# EAGLE library part ADE7953 (library analog-devices)
Single Phase, Multifunction Metering IC with Neutral Current Measurement Source: http://www.analog.com/static/imported-files/data_sheets/ADE7953.pdf http://www.analog.com/static/imported-files/jp/data_sheets/ADE7953_jp.pdf
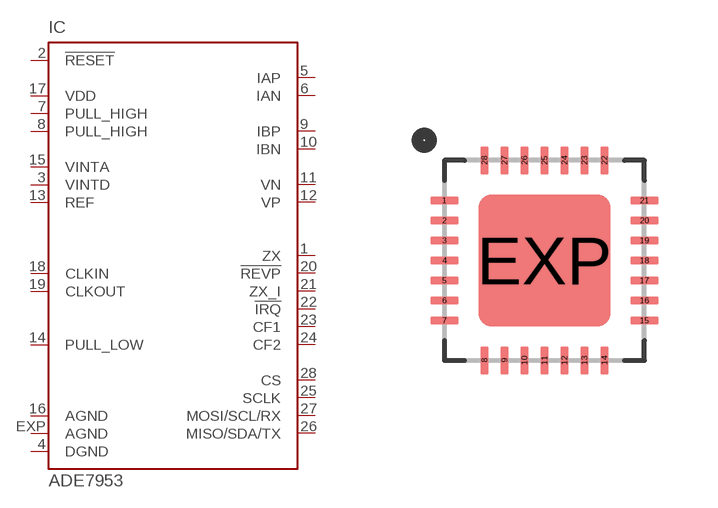
[diagram p1: symbol with the pads of QFN28-ML; footprint QFN28-ML]

Designator prefix IC

## ADE7953  [QFN28-ML]
1  ZX  out
2  !RESET!  in
3  VINTD  out
4  DGND  pwr
5  IAP  in
6  IAN  in
7  PULL_HIGH  in
8  PULL_HIGH  in
9  IBP  in
10  IBN  in
11  VN  in
12  VP  in
13  REF  out
14  PULL_LOW  in
15  VINTA  out
16  AGND  pwr
17  VDD  pwr
18  CLKIN  in
19  CLKOUT  out
20  !REVP!  out
21  ZX_I  out
22  !IRQ!  out
23  CF1  out
24  CF2  out
25  SCLK  in
26  MISO/SDA/TX  out
27  MOSI/SCL/RX  in
28  CS  in
EXP  AGND  pwr

## Footprint QFN28-ML (pad centres in mm)
smd 0.7 x 0.2: 1 -2.5,1.5; 2 -2.5,1; 3 -2.5,0.5; 4 -2.5,0; 5 -2.5,-0.5; 6 -2.5,-1; 7 -2.5,-1.5; 15 2.5,-1.5; 16 2.5,-1; 17 2.5,-0.5; 18 2.5,0; 19 2.5,0.5; 20 2.5,1; 21 2.5,1.5
smd 0.2 x 0.7: 8 -1.5,-2.5; 9 -1,-2.5; 10 -0.5,-2.5; 11 0,-2.5; 12 0.5,-2.5; 13 1,-2.5; 14 1.5,-2.5; 22 1.5,2.5; 23 1,2.5; 24 0.5,2.5; 25 0,2.5; 26 -0.5,2.5; 27 -1,2.5; 28 -1.5,2.5
smd 3.3 x 3.3: EXP 0,0